# Altium integrated library nrf52811_qxaa.IntLib: 8 symbols
Pins are listed as number, name and electrical type; pins without a type are passive.

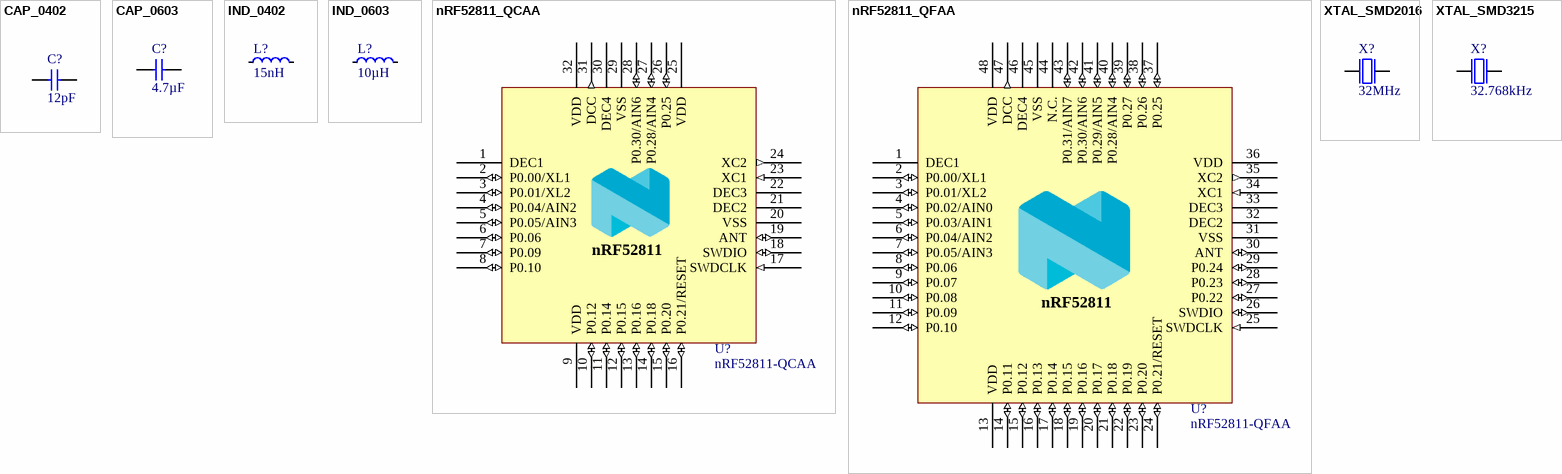
[diagram p0: symbols CAP_0402 to XTAL_SMD3215]

## CAP_0402
designator C?, comment 12pF
Capacitor, NP0, ±2%; Part Number: C0402-12p; Note: 50V; Manufacturer: *; Manufacturer Part Number: *; LatestRevisionDate: 2011-05-11; Pin Count: 2; Publisher: Nordic Semiconductor; Published: 2009-05-08; Value: 12pF; Footprint Doc: 0402
footprint CAPC1005X04L
pins: 1, 2

## CAP_0603
designator C?, comment 4.7µF
Capacitor, X5R, ±10%; Part Number: C0603-4µ7; Note: 6.3V; Manufacturer: *; Manufacturer Part Number: *; LatestRevisionDate: 2009-11-23; Pin Count: 2; Publisher: Nordic Semiconductor; Published: 2009-05-08; Value: 4.7µF; Footprint Doc: 0603
footprint CAPC1608X06L
pins: 1, 2

## IND_0402
designator L?, comment 15nH
High frequency chip inductor ±10%; Part Number: L0402-15n; LatestRevisionDate: 2012-09-19; Pin Count: 2; Publisher: Nordic Semiconductor; Published: 2010-07-12; Value: 15nH; Footprint Doc: 0402
footprint INDC1005X04L
pins: 1, 2

## IND_0603
designator L?, comment 10µH
Chip inductor, IDC,min = 50 mA, ±20%; Part Number: L0603-10µ; LatestRevisionDate: 2012-09-19; Pin Count: 2; Publisher: Nordic Semiconductor; Published: 2010-02-24; Value: 10µH; Footprint Doc: 0603
footprint INDC1608X06L
pins: 1, 2

## nRF52811_QCAA
designator U?, comment nRF52811-QCAA
Multi-protocol Bluetooth Low Energy, IEEE 802.15.4, ANT and 2.4GHz proprietary system-on-chip; Part Number: nRF52811-QCAAA0; Manufacturer: Nordic Semiconductor; Manufacturer Part Number: nRF52811-QCAAA0; LatestRevisionDate: 2019-01-30; Pin Count: 32; Publisher: Nordic Semiconductor; Published: 2019-01-30; Value: nRF52811-QCAA; Footprint Doc: QFN-32
footprint Nordic_QFN50P500X500X90-33N
pins: 1 DEC1 (power), 2 P0.00/XL1 (io), 3 P0.01/XL2 (io), 4 P0.04/AIN2 (io), 5 P0.05/AIN3 (io), 6 P0.06 (io), 7 P0.09 (io), 8 P0.10 (io), 9 VDD (power), 10 P0.12 (io), 11 P0.14 (io), 12 P0.15 (io), 13 P0.16 (io), 14 P0.18 (io), 15 P0.20 (io), 16 P0.21/RESET (io), 17 SWDCLK (in), 18 SWDIO (io), 19 ANT (io), 20 VSS (power), 21 DEC2 (power), 22 DEC3 (power), 23 XC1 (in), 24 XC2 (out), 25 VDD (power), 26 P0.25 (io), 27 P0.28/AIN4 (io), 28 P0.30/AIN6 (io), 29 VSS (power), 30 DEC4 (power), 31 DCC (out), 32 VDD (power), 33 (power) hidden to GND
text: nRF52811

## nRF52811_QFAA
designator U?, comment nRF52811-QFAA
Multi-protocol Bluetooth Low Energy, IEEE 802.15.4, ANT and 2.4GHz proprietary system-on-chip; Part Number: nRF52811-QFAAA0; Manufacturer: Nordic Semiconductor; Manufacturer Part Number: nRF52811-QFAAA0; LatestRevisionDate: 2019-01-30; Pin Count: 48; Publisher: Nordic Semiconductor; Published: 2019-01-30; Value: nRF52811-QFAA; Footprint Doc: QFN-48
footprint QFN40P600X600X90-48N
pins: 1 DEC1 (power), 2 P0.00/XL1 (io), 3 P0.01/XL2 (io), 4 P0.02/AIN0 (io), 5 P0.03/AIN1 (io), 6 P0.04/AIN2 (io), 7 P0.05/AIN3 (io), 8 P0.06 (io), 9 P0.07 (io), 10 P0.08 (io), 11 P0.09 (io), 12 P0.10 (io), 13 VDD (power), 14 P0.11 (io), 15 P0.12 (io), 16 P0.13 (io), 17 P0.14 (io), 18 P0.15 (io), 19 P0.16 (io), 20 P0.17 (io), 21 P0.18 (io), 22 P0.19 (io), 23 P0.20 (io), 24 P0.21/RESET (io), 25 SWDCLK (in), 26 SWDIO (io), 27 P0.22 (io), 28 P0.23 (io), 29 P0.24 (io), 30 ANT (io), 31 VSS (power), 32 DEC2 (power), 33 DEC3 (power), 34 XC1 (in), 35 XC2 (out), 36 VDD (power), 37 P0.25 (io), 38 P0.26 (io), 39 P0.27 (io), 40 P0.28/AIN4 (io), 41 P0.29/AIN5 (io), 42 P0.30/AIN6 (io), 43 P0.31/AIN7 (io), 44 N.C. (power), 45 VSS (power), 46 DEC4 (power), 47 DCC (out), 48 VDD (power), 49 GND (power) hidden to GND
text: nRF52811

## XTAL_SMD2016
designator X?, comment 32MHz
XTAL SMD 2016, 32MHz, Cl=8pF, Total Tol: ±40ppm; Part Number: XTAL_SMD2016_32MHz_8pF_General; Manufacturer: *; Manufacturer Part Number: *; LatestRevisionDate: 2016-08-19; Pin Count: 4; Publisher: Nordic Semiconductor; Published: 2016-08-19; Value: 32MHz; Footprint Doc: XTAL_2016
footprint BT-XTAL_2016
pins: 1 inp, 2 GND hidden to GND, 3 out, 4 GND hidden to GND

## XTAL_SMD3215
designator X?, comment 32.768kHz
XTAL SMD 3215, 32.768kHz, Cl=9pF, Total Tol: ±50ppm; Part Number: XTAL_SMD3215_32.768kHz_9pF_General; Manufacturer: *; Manufacturer Part Number: *; LatestRevisionDate: 2016-08-19; Pin Count: 2; Publisher: Nordic Semiconductor; Published: 2016-08-19; Value: 32.768kHz; Footprint Doc: XTAL_3215
footprint XTAL_3215
pins: 1 inp, 2 out